# Altium schematic symbol library PowerMangment.SchLib: 147 symbols (part 2 of 2)
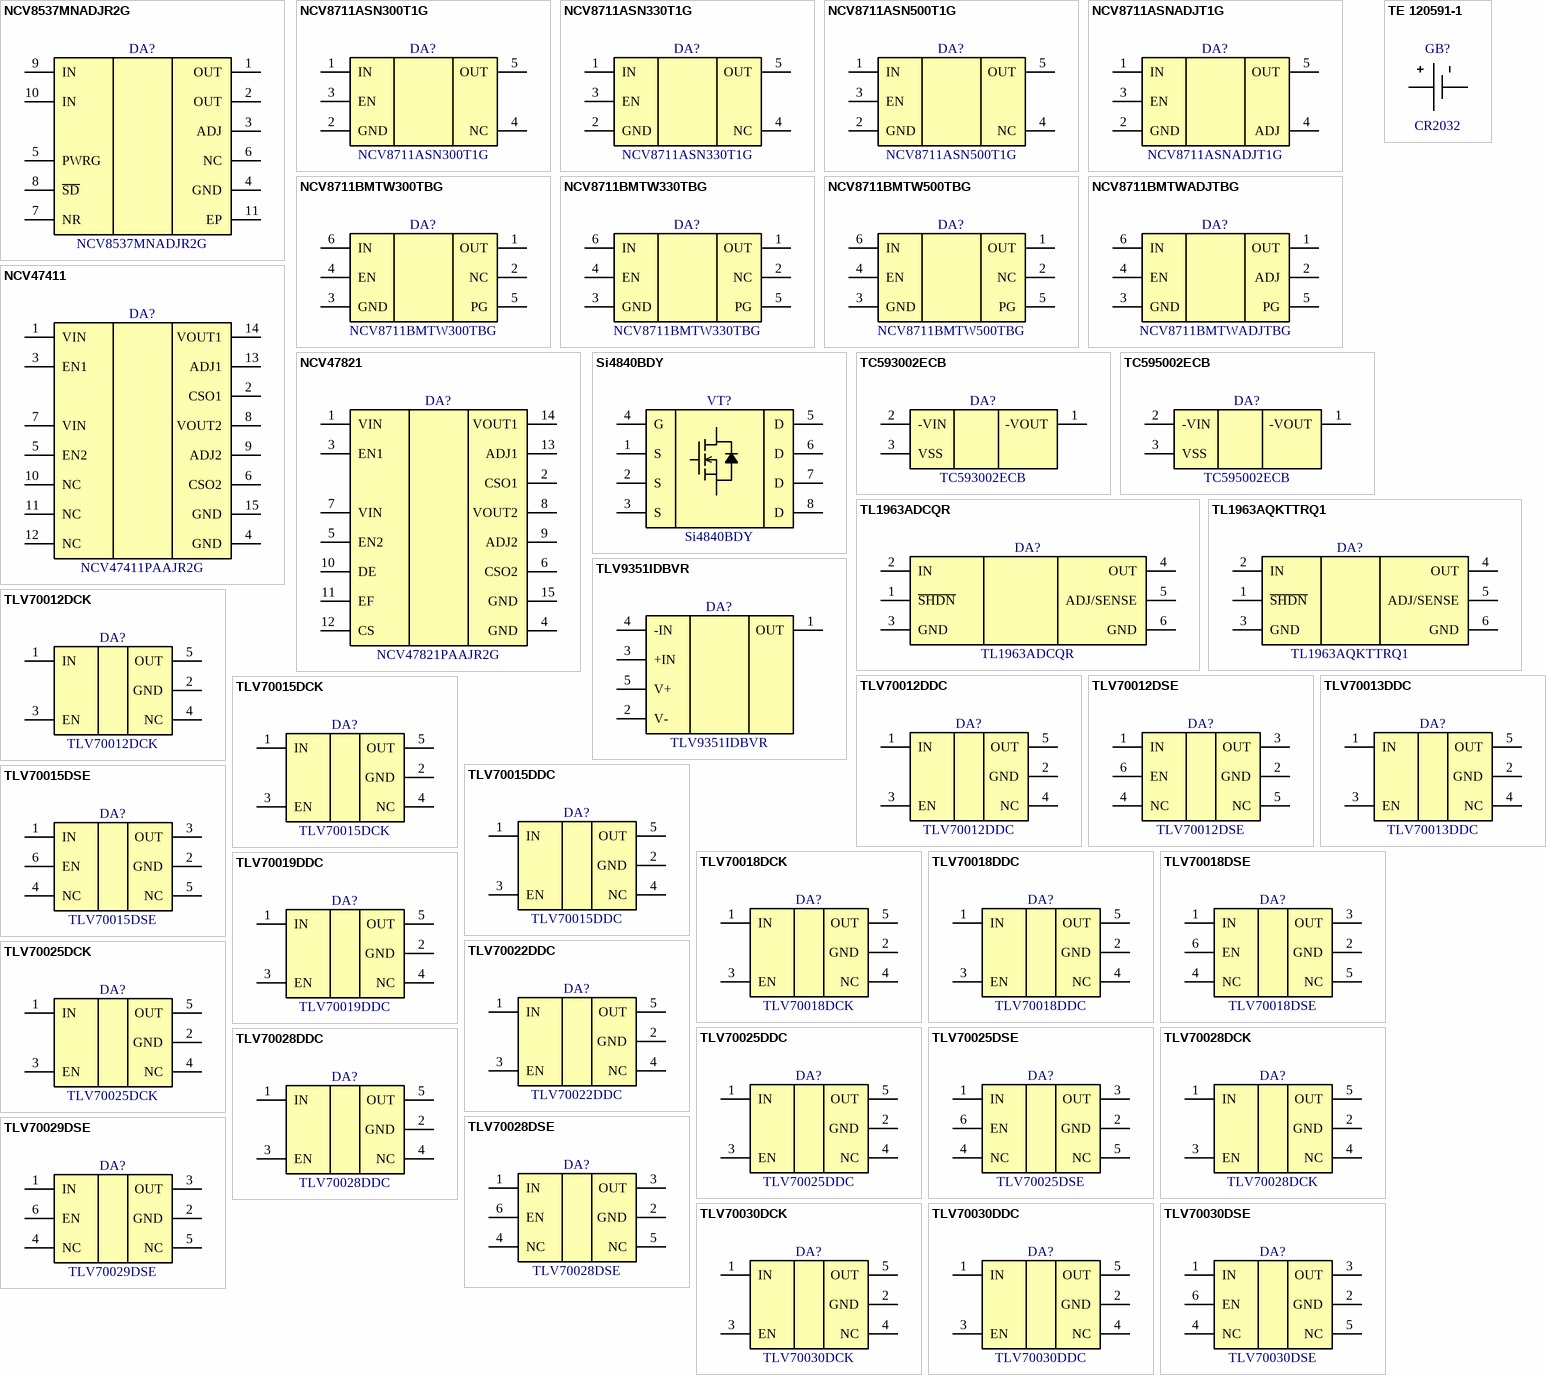
[diagram p5: symbols NCV8537MNADJR2G to TLV70030DSE]

## NCV8711ASN300T1G
designator DA?
LDO Regulator, 100 mA, 18 V, 1 uA, SOT-23-5, 3 V Fixed; Manufacturer: OnSemi; PartNumber: NCV8711ASN300T1G; ComponentLink1Description: Product Page; ComponentLink1URL: https://www.onsemi.com/products/power-management/linear-regulators-ldo/ncv8711; ComponentLink2Description: DataSheet; ComponentLink2URL: https://www.onsemi.com/download/data-sheet/pdf/ncv8711-d.pdf
footprint SOT23-5P95_275X110L40X37N (Small Outline Transistor (SOT23), 0.95 mm pitch; 5 pin, 3.00 mm L X 1.50 mm W X 1.10 mm H body)
pins: 1 IN, 2 GND, 3 EN, 4 NC, 5 OUT

## NCV8711ASN330T1G
designator DA?
LDO Regulator, 100 mA, 18 V, 1 uA, SOT-23-5, 3.3 V Fixed; Manufacturer: OnSemi; PartNumber: NCV8711ASN330T1G; ComponentLink1Description: Product Page; ComponentLink1URL: https://www.onsemi.com/products/power-management/linear-regulators-ldo/ncv8711; ComponentLink2Description: DataSheet; ComponentLink2URL: https://www.onsemi.com/download/data-sheet/pdf/ncv8711-d.pdf
footprint SOT23-5P95_275X110L40X37N (Small Outline Transistor (SOT23), 0.95 mm pitch; 5 pin, 3.00 mm L X 1.50 mm W X 1.10 mm H body)
pins: 1 IN, 2 GND, 3 EN, 4 NC, 5 OUT

## NCV8711ASN500T1G
designator DA?
LDO Regulator, 100 mA, 18 V, 1 uA, SOT-23-5, 5 V Fixed; Manufacturer: OnSemi; PartNumber: NCV8711ASN500T1G; ComponentLink1Description: Product Page; ComponentLink1URL: https://www.onsemi.com/products/power-management/linear-regulators-ldo/ncv8711; ComponentLink2Description: DataSheet; ComponentLink2URL: https://www.onsemi.com/download/data-sheet/pdf/ncv8711-d.pdf
footprint SOT23-5P95_275X110L40X37N (Small Outline Transistor (SOT23), 0.95 mm pitch; 5 pin, 3.00 mm L X 1.50 mm W X 1.10 mm H body)
pins: 1 IN, 2 GND, 3 EN, 4 NC, 5 OUT

## NCV8711ASNADJT1G
designator DA?
LDO Regulator, 100 mA, 18 V, 1 uA, SOT-23-5, Adj; Manufacturer: OnSemi; PartNumber: NCV8711ASNADJT1G; ComponentLink1Description: Product Page; ComponentLink1URL: https://www.onsemi.com/products/power-management/linear-regulators-ldo/ncv8711; ComponentLink2Description: DataSheet; ComponentLink2URL: https://www.onsemi.com/download/data-sheet/pdf/ncv8711-d.pdf
footprint SOT23-5P95_275X110L40X37N (Small Outline Transistor (SOT23), 0.95 mm pitch; 5 pin, 3.00 mm L X 1.50 mm W X 1.10 mm H body)
pins: 1 IN, 2 GND, 3 EN, 4 ADJ, 5 OUT

## NCV8711BMTW300TBG
designator DA?
LDO Regulator, 100 mA, 18 V, 1 uA, WDFNW6, 3.0 V Fixed; Manufacturer: OnSemi; PartNumber: NCV8711BMTW300TBG; ComponentLink1Description: Product Page; ComponentLink1URL: https://www.onsemi.com/products/power-management/linear-regulators-ldo/ncv8711; ComponentLink2Description: DataSheet; ComponentLink2URL: https://www.onsemi.com/download/data-sheet/pdf/ncv8711-d.pdf
footprint SON7P65_200X200X80L30X30T160X90N (Small Outline No-Lead (SON with Tab), 0.65 mm pitch; 6 pin, 2.00 mm L X 2.00 mm W X 0.80 mm H body)
pins: 1 OUT, 2 NC, 3 GND, 4 EN, 5 PG, 6 IN

## NCV8711BMTW330TBG
designator DA?
LDO Regulator, 100 mA, 18 V, 1 uA, WDFNW6, 3.3 V Fixed; Manufacturer: OnSemi; PartNumber: NCV8711BMTW330TBG; ComponentLink1Description: Product Page; ComponentLink1URL: https://www.onsemi.com/products/power-management/linear-regulators-ldo/ncv8711; ComponentLink2Description: DataSheet; ComponentLink2URL: https://www.onsemi.com/download/data-sheet/pdf/ncv8711-d.pdf
footprint SON7P65_200X200X80L30X30T160X90N (Small Outline No-Lead (SON with Tab), 0.65 mm pitch; 6 pin, 2.00 mm L X 2.00 mm W X 0.80 mm H body)
pins: 1 OUT, 2 NC, 3 GND, 4 EN, 5 PG, 6 IN

## NCV8711BMTW500TBG
designator DA?
LDO Regulator, 100 mA, 18 V, 1 uA, WDFNW6, 5.0 V Fixed; Manufacturer: OnSemi; PartNumber: NCV8711BMTW500TBG; ComponentLink1Description: Product Page; ComponentLink1URL: https://www.onsemi.com/products/power-management/linear-regulators-ldo/ncv8711; ComponentLink2Description: DataSheet; ComponentLink2URL: https://www.onsemi.com/download/data-sheet/pdf/ncv8711-d.pdf
footprint SON7P65_200X200X80L30X30T160X90N (Small Outline No-Lead (SON with Tab), 0.65 mm pitch; 6 pin, 2.00 mm L X 2.00 mm W X 0.80 mm H body)
pins: 1 OUT, 2 NC, 3 GND, 4 EN, 5 PG, 6 IN

## NCV8711BMTWADJTBG
designator DA?
LDO Regulator, 100 mA, 18 V, 1 uA, WDFNW6, Adj; Manufacturer: OnSemi; PartNumber: NCV8711BMTWADJTBG; ComponentLink1Description: Product Page; ComponentLink1URL: https://www.onsemi.com/products/power-management/linear-regulators-ldo/ncv8711; ComponentLink2Description: DataSheet; ComponentLink2URL: https://www.onsemi.com/download/data-sheet/pdf/ncv8711-d.pdf
footprint SON7P65_200X200X80L30X30T160X90N (Small Outline No-Lead (SON with Tab), 0.65 mm pitch; 6 pin, 2.00 mm L X 2.00 mm W X 0.80 mm H body)
pins: 1 OUT, 2 ADJ, 3 GND, 4 EN, 5 PG, 6 IN

## NCV47411
designator DA?, comment NCV47411PAAJR2G
LDO Regulator, 100 mA, Low Dropout, High PSRR, 3.3 V to 20 V; Manufacturer: OnSemi; PartNumber: NCV47411PAAJR2G; ComponentLink1Description: Product Page; ComponentLink1URL: https://www.onsemi.com/products/power-management/linear-regulators-ldo/ncv47411; ComponentLink2Description: DataSheet; ComponentLink2URL: https://www.onsemi.com/download/data-sheet/pdf/ncv47411-d.pdf
footprint SOP15P65_500X640X120L60X24T335X295N (Small Outline Pkg (SOP with Tab), 0.65 mm pitch; 14 pin, 5.00 mm L X 4.40 mm W X 1.20 mm H body)
pins: 1 VIN, 2 CSO1, 3 EN1, 4 GND, 5 EN2, 6 CSO2, 7 VIN, 8 VOUT2, 9 ADJ2, 10 NC, 11 NC, 12 NC, 13 ADJ1, 14 VOUT1, 15 GND

## NCV47821
designator DA?, comment NCV47821PAAJR2G
LDO Regulator, 200 mA, Low Dropout, High PSRR, 3.3 V to 20 V, Diagnostic Features; Manufacturer: OnSemi; PartNumber: NCV47821PAAJR2G; ComponentLink1Description: Product Page; ComponentLink1URL: https://www.onsemi.com/products/power-management/linear-regulators-ldo/ncv47821; ComponentLink2Description: DataSheet; ComponentLink2URL: https://www.onsemi.com/download/data-sheet/pdf/ncv47821-d.pdf
footprint SOP15P65_500X640X120L60X24T335X295N (Small Outline Pkg (SOP with Tab), 0.65 mm pitch; 14 pin, 5.00 mm L X 4.40 mm W X 1.20 mm H body)
pins: 1 VIN, 2 CSO1, 3 EN1, 4 GND, 5 EN2, 6 CSO2, 7 VIN, 8 VOUT2, 9 ADJ2, 10 DE, 11 EF, 12 CS, 13 ADJ1, 14 VOUT1, 15 GND

## Si4840BDY
designator VT?
N-Channel 40 V (D-S) MOSFET; Manufacturer: Vishay; PartNumber: Si4840BDY; ComponentLink1Description: Product Page; ComponentLink1URL: https://www.vishay.com/en/product/69795/; ComponentLink2Description: DataSheet; ComponentLink2URL: https://www.vishay.com/docs/69795/si4840bdy.pdf
footprint SOIC8P127_490X600X175L71X43N (Small Outline IC (SOIC), 1.27 mm pitch; 8 pin, 4.90 mm L X 3.90 mm W X 1.75 mm H body)
pins: 1 S, 2 S, 3 S, 4 G, 5 D, 6 D, 7 D, 8 D

## TC593002ECB
designator DA?
Low Dropout, Negative Output Voltage Regulator, -3V fixed; Manufacturer: Microchip; PartNumber: TC593002ECB; ComponentLink1Description: Product Page; ComponentLink1URL: https://www.microchip.com/en-us/product/TC59; ComponentLink2Description: DataSheet; ComponentLink2URL: https://ww1.microchip.com/downloads/aemDocuments/documents/APID/ProductDocuments/DataSheets/21438C.pdf
footprint SOT23-3P95_275X130L45X40N (Small Outline Transistor (SOT23), 0.95 mm pitch; 3 pin, 2.90 mm L X 1.60 mm W X 1.30 mm H body)
pins: 1 -VOUT, 2 -VIN, 3 VSS

## TC595002ECB
designator DA?
Low Dropout, Negative Output Voltage Regulator, -5V fixed; Manufacturer: Microchip; PartNumber: TC595002ECB; ComponentLink1Description: Product Page; ComponentLink1URL: https://www.microchip.com/en-us/product/TC59; ComponentLink2Description: DataSheet; ComponentLink2URL: https://ww1.microchip.com/downloads/aemDocuments/documents/APID/ProductDocuments/DataSheets/21438C.pdf
footprint SOT23-3P95_275X130L45X40N (Small Outline Transistor (SOT23), 0.95 mm pitch; 3 pin, 2.90 mm L X 1.60 mm W X 1.30 mm H body)
pins: 1 -VOUT, 2 -VIN, 3 VSS

## TE 120591-1
designator GB?, comment CR2032
Battery Holder, CR2032, Horizontal, Tin, PCB Mount Alignment; PartNumber: 120591-1; Manufacturer: TE Connectivity; BatteryType: CR2032; ComponentLink1Description: Product Page; ComponentLink1URL: https://www.te.com/usa-en/product-120591-1.html; ComponentLink2Description: DataSheet; ComponentLink2URL: https://www.te.com/usa-en/product-120591-1.datasheet.pdf
footprint TE 120591-1 (Lithium Battery Holder, CR2032, 2 Position, Horizontal, Tin, PCB Mount Alignment)
pins: 1, 2

## TL1963ADCQR
designator DA?
1.5-A, 20-V, low-dropout voltage regulator with reverse current & reverse voltage protection, Adj., SOT-223; Manufacturer: Texas Instruments; PartNumber: TL1963ADCQR; ComponentLink1Description: Product Page; ComponentLink1URL: https://www.ti.com/product/TL1963A; ComponentLink2Description: DataSheet; ComponentLink2URL: https://www.ti.com/lit/gpn/tl1963a
footprint SOT223-6P127_706X180L102X46N (Small Outline Transistor (SOT223), 1.27 mm pitch; 6 pin, 6.50 mm L X 3.50 mm W X 1.80 mm H body)
pins: 1 ~{SHDN}, 2 IN, 3 GND, 4 OUT, 5 ADJ/SENSE, 6 GND

## TL1963AQKTTRQ1
designator DA?
1.5-A Low-Noise Fast-Transient-Response Low-Dropout Regulator; Manufacturer: Texas Instruments; PartNumber: TL1963AQKTTRQ1; ComponentLink1Description: Product Page; ComponentLink1URL: https://www.ti.com/product/TL1963A-Q1; ComponentLink2Description: DataSheet; ComponentLink2URL: https://www.ti.com/lit/gpn/tl1963a-q1
footprint DPAK170P1525X485-6N (D2-PAK, 6-Pads, Body 7,93x8,71mm (max), IPC Medium Density)
pins: 1 ~{SHDN}, 2 IN, 3 GND, 4 OUT, 5 ADJ/SENSE, 6 GND

## TLV9351IDBVR
designator DA?
3.5-MHz, 40-V, RRO, MUX-Friendly Operational Amplifier / for Cost-Sensitive Systems, SOT-23; Manufacturer: Texas Instruments; PartNumber: TLV9351IDBVR; ComponentLink1Description: Product Page; ComponentLink1URL: https://www.ti.com/product/TLV9351; ComponentLink2Description: DataSheet; ComponentLink2URL: https://www.ti.com/lit/gpn/tlv9351
footprint SOT23-5P95_280X145L45X40N (Small Outline Transistor (SOT23), 0.95 mm pitch; 5 pin, 2.90 mm L X 1.60 mm W X 1.45 mm H body)
pins: 1 OUT, 2 V-, 3 +IN, 4 -IN, 5 V+

## TLV70012DCK
designator DA?
200-mA,Low-IQ, Low-Dropout Regulator for Portable Devices, Fixed 1.2 V, SC70; Manufacturer: Texas Instruments; PartNumber: TLV70012DCK; ComponentLink1Description: Product Page; ComponentLink1URL: https://www.ti.com/product/TLV700; ComponentLink2Description: DataSheet; ComponentLink2URL: https://www.ti.com/lit/gpn/tlv700
footprint SOT23-5P65_210X110L36X22N (Small Outline Transistor (SOT23), 0.65 mm pitch; 5 pin, 2.00 mm L X 1.25 mm W X 1.10 mm H body)
pins: 1 IN, 2 GND, 3 EN, 4 NC, 5 OUT

## TLV70012DDC
designator DA?
200-mA,Low-IQ, Low-Dropout Regulator for Portable Devices, Fixed 1.2 V, SOT-23-THIN; Manufacturer: Texas Instruments; PartNumber: TLV70012DDC; ComponentLink1Description: Product Page; ComponentLink1URL: https://www.ti.com/product/TLV700; ComponentLink2Description: DataSheet; ComponentLink2URL: https://www.ti.com/lit/gpn/tlv700
footprint SOT23-5P95_280X110L45X40N (Small Outline Transistor (SOT23), 0.95 mm pitch; 5 pin, 2.90 mm L X 1.60 mm W X 1.10 mm H body)
pins: 1 IN, 2 GND, 3 EN, 4 NC, 5 OUT

## TLV70012DSE
designator DA?
200-mA,Low-IQ, Low-Dropout Regulator for Portable Devices, Fixed 1.2 V, WSON-6; Manufacturer: Texas Instruments; PartNumber: TLV70012DSE; ComponentLink1Description: Product Page; ComponentLink1URL: https://www.ti.com/product/TLV700; ComponentLink2Description: DataSheet; ComponentLink2URL: https://www.ti.com/lit/gpn/tlv700
footprint SON6P50_150X150X80L50X25N (Small Outline No-Lead (SON), 0.50 mm pitch; 6 pin, 1.50 mm L X 1.50 mm W X 0.80 mm H body)
pins: 1 IN, 2 GND, 3 OUT, 4 NC, 5 NC, 6 EN

## TLV70013DDC
designator DA?
200-mA,Low-IQ, Low-Dropout Regulator for Portable Devices, Fixed 1.3 V, SOT-23-THIN; Manufacturer: Texas Instruments; PartNumber: TLV70013DDC; ComponentLink1Description: Product Page; ComponentLink1URL: https://www.ti.com/product/TLV700; ComponentLink2Description: DataSheet; ComponentLink2URL: https://www.ti.com/lit/gpn/tlv700
footprint SOT23-5P95_280X110L45X40N (Small Outline Transistor (SOT23), 0.95 mm pitch; 5 pin, 2.90 mm L X 1.60 mm W X 1.10 mm H body)
pins: 1 IN, 2 GND, 3 EN, 4 NC, 5 OUT

## TLV70015DCK
designator DA?
200-mA,Low-IQ, Low-Dropout Regulator for Portable Devices, Fixed 1.5 V, SC70; Manufacturer: Texas Instruments; PartNumber: TLV70015DCK; ComponentLink1Description: Product Page; ComponentLink1URL: https://www.ti.com/product/TLV700; ComponentLink2Description: DataSheet; ComponentLink2URL: https://www.ti.com/lit/gpn/tlv700
footprint SOT23-5P65_210X110L36X22N (Small Outline Transistor (SOT23), 0.65 mm pitch; 5 pin, 2.00 mm L X 1.25 mm W X 1.10 mm H body)
pins: 1 IN, 2 GND, 3 EN, 4 NC, 5 OUT

## TLV70015DDC
designator DA?
200-mA,Low-IQ, Low-Dropout Regulator for Portable Devices, Fixed 1.5 V, SOT-23-THIN; Manufacturer: Texas Instruments; PartNumber: TLV70015DDC; ComponentLink1Description: Product Page; ComponentLink1URL: https://www.ti.com/product/TLV700; ComponentLink2Description: DataSheet; ComponentLink2URL: https://www.ti.com/lit/gpn/tlv700
footprint SOT23-5P95_280X110L45X40N (Small Outline Transistor (SOT23), 0.95 mm pitch; 5 pin, 2.90 mm L X 1.60 mm W X 1.10 mm H body)
pins: 1 IN, 2 GND, 3 EN, 4 NC, 5 OUT

## TLV70015DSE
designator DA?
200-mA,Low-IQ, Low-Dropout Regulator for Portable Devices, Fixed 1.5 V, WSON-6; Manufacturer: Texas Instruments; PartNumber: TLV70015DSE; ComponentLink1Description: Product Page; ComponentLink1URL: https://www.ti.com/product/TLV700; ComponentLink2Description: DataSheet; ComponentLink2URL: https://www.ti.com/lit/gpn/tlv700
footprint SON6P50_150X150X80L50X25N (Small Outline No-Lead (SON), 0.50 mm pitch; 6 pin, 1.50 mm L X 1.50 mm W X 0.80 mm H body)
pins: 1 IN, 2 GND, 3 OUT, 4 NC, 5 NC, 6 EN

## TLV70018DCK
designator DA?
200-mA,Low-IQ, Low-Dropout Regulator for Portable Devices, Fixed 1.8 V, SC70; Manufacturer: Texas Instruments; PartNumber: TLV70018DCK; ComponentLink1Description: Product Page; ComponentLink1URL: https://www.ti.com/product/TLV700; ComponentLink2Description: DataSheet; ComponentLink2URL: https://www.ti.com/lit/gpn/tlv700
footprint SOT23-5P65_210X110L36X22N (Small Outline Transistor (SOT23), 0.65 mm pitch; 5 pin, 2.00 mm L X 1.25 mm W X 1.10 mm H body)
pins: 1 IN, 2 GND, 3 EN, 4 NC, 5 OUT

## TLV70018DDC
designator DA?
200-mA,Low-IQ, Low-Dropout Regulator for Portable Devices, Fixed 1.8 V, SOT-23-THIN; Manufacturer: Texas Instruments; PartNumber: TLV70018DDC; ComponentLink1Description: Product Page; ComponentLink1URL: https://www.ti.com/product/TLV700; ComponentLink2Description: DataSheet; ComponentLink2URL: https://www.ti.com/lit/gpn/tlv700
footprint SOT23-5P95_280X110L45X40N (Small Outline Transistor (SOT23), 0.95 mm pitch; 5 pin, 2.90 mm L X 1.60 mm W X 1.10 mm H body)
pins: 1 IN, 2 GND, 3 EN, 4 NC, 5 OUT

## TLV70018DSE
designator DA?
200-mA,Low-IQ, Low-Dropout Regulator for Portable Devices, Fixed 1.5 V, WSON-6; Manufacturer: Texas Instruments; PartNumber: TLV70018DSE; ComponentLink1Description: Product Page; ComponentLink1URL: https://www.ti.com/product/TLV700; ComponentLink2Description: DataSheet; ComponentLink2URL: https://www.ti.com/lit/gpn/tlv700
footprint SON6P50_150X150X80L50X25N (Small Outline No-Lead (SON), 0.50 mm pitch; 6 pin, 1.50 mm L X 1.50 mm W X 0.80 mm H body)
pins: 1 IN, 2 GND, 3 OUT, 4 NC, 5 NC, 6 EN

## TLV70019DDC
designator DA?
200-mA,Low-IQ, Low-Dropout Regulator for Portable Devices, Fixed 1.9 V, SOT-23-THIN; Manufacturer: Texas Instruments; PartNumber: TLV70019DDC; ComponentLink1Description: Product Page; ComponentLink1URL: https://www.ti.com/product/TLV700; ComponentLink2Description: DataSheet; ComponentLink2URL: https://www.ti.com/lit/gpn/tlv700
footprint SOT23-5P95_280X110L45X40N (Small Outline Transistor (SOT23), 0.95 mm pitch; 5 pin, 2.90 mm L X 1.60 mm W X 1.10 mm H body)
pins: 1 IN, 2 GND, 3 EN, 4 NC, 5 OUT

## TLV70022DDC
designator DA?
200-mA,Low-IQ, Low-Dropout Regulator for Portable Devices, Fixed 2.2 V, SOT-23-THIN; Manufacturer: Texas Instruments; PartNumber: TLV70022DDC; ComponentLink1Description: Product Page; ComponentLink1URL: https://www.ti.com/product/TLV700; ComponentLink2Description: DataSheet; ComponentLink2URL: https://www.ti.com/lit/gpn/tlv700
footprint SOT23-5P95_280X110L45X40N (Small Outline Transistor (SOT23), 0.95 mm pitch; 5 pin, 2.90 mm L X 1.60 mm W X 1.10 mm H body)
pins: 1 IN, 2 GND, 3 EN, 4 NC, 5 OUT

## TLV70025DCK
designator DA?
200-mA,Low-IQ, Low-Dropout Regulator for Portable Devices, Fixed 2.5 V, SC70; Manufacturer: Texas Instruments; PartNumber: TLV70025DCK; ComponentLink1Description: Product Page; ComponentLink1URL: https://www.ti.com/product/TLV700; ComponentLink2Description: DataSheet; ComponentLink2URL: https://www.ti.com/lit/gpn/tlv700
footprint SOT23-5P65_210X110L36X22N (Small Outline Transistor (SOT23), 0.65 mm pitch; 5 pin, 2.00 mm L X 1.25 mm W X 1.10 mm H body)
pins: 1 IN, 2 GND, 3 EN, 4 NC, 5 OUT

## TLV70025DDC
designator DA?
200-mA,Low-IQ, Low-Dropout Regulator for Portable Devices, Fixed 2.5 V, SOT-23-THIN; Manufacturer: Texas Instruments; PartNumber: TLV70025DDC; ComponentLink1Description: Product Page; ComponentLink1URL: https://www.ti.com/product/TLV700; ComponentLink2Description: DataSheet; ComponentLink2URL: https://www.ti.com/lit/gpn/tlv700
footprint SOT23-5P95_280X110L45X40N (Small Outline Transistor (SOT23), 0.95 mm pitch; 5 pin, 2.90 mm L X 1.60 mm W X 1.10 mm H body)
pins: 1 IN, 2 GND, 3 EN, 4 NC, 5 OUT

## TLV70025DSE
designator DA?
200-mA,Low-IQ, Low-Dropout Regulator for Portable Devices, Fixed 2.5 V, WSON-6; Manufacturer: Texas Instruments; PartNumber: TLV70025DSE; ComponentLink1Description: Product Page; ComponentLink1URL: https://www.ti.com/product/TLV700; ComponentLink2Description: DataSheet; ComponentLink2URL: https://www.ti.com/lit/gpn/tlv700
footprint SON6P50_150X150X80L50X25N (Small Outline No-Lead (SON), 0.50 mm pitch; 6 pin, 1.50 mm L X 1.50 mm W X 0.80 mm H body)
pins: 1 IN, 2 GND, 3 OUT, 4 NC, 5 NC, 6 EN

## TLV70028DCK
designator DA?
200-mA,Low-IQ, Low-Dropout Regulator for Portable Devices, Fixed 2.8 V, SC70; Manufacturer: Texas Instruments; PartNumber: TLV70028DCK; ComponentLink1Description: Product Page; ComponentLink1URL: https://www.ti.com/product/TLV700; ComponentLink2Description: DataSheet; ComponentLink2URL: https://www.ti.com/lit/gpn/tlv700
footprint SOT23-5P65_210X110L36X22N (Small Outline Transistor (SOT23), 0.65 mm pitch; 5 pin, 2.00 mm L X 1.25 mm W X 1.10 mm H body)
pins: 1 IN, 2 GND, 3 EN, 4 NC, 5 OUT

## TLV70028DDC
designator DA?
200-mA,Low-IQ, Low-Dropout Regulator for Portable Devices, Fixed 2.8 V, SOT-23-THIN; Manufacturer: Texas Instruments; PartNumber: TLV70028DDC; ComponentLink1Description: Product Page; ComponentLink1URL: https://www.ti.com/product/TLV700; ComponentLink2Description: DataSheet; ComponentLink2URL: https://www.ti.com/lit/gpn/tlv700
footprint SOT23-5P95_280X110L45X40N (Small Outline Transistor (SOT23), 0.95 mm pitch; 5 pin, 2.90 mm L X 1.60 mm W X 1.10 mm H body)
pins: 1 IN, 2 GND, 3 EN, 4 NC, 5 OUT

## TLV70028DSE
designator DA?
200-mA,Low-IQ, Low-Dropout Regulator for Portable Devices, Fixed 2.8 V, WSON-6; Manufacturer: Texas Instruments; PartNumber: TLV70028DSE; ComponentLink1Description: Product Page; ComponentLink1URL: https://www.ti.com/product/TLV700; ComponentLink2Description: DataSheet; ComponentLink2URL: https://www.ti.com/lit/gpn/tlv700
footprint SON6P50_150X150X80L50X25N (Small Outline No-Lead (SON), 0.50 mm pitch; 6 pin, 1.50 mm L X 1.50 mm W X 0.80 mm H body)
pins: 1 IN, 2 GND, 3 OUT, 4 NC, 5 NC, 6 EN

## TLV70029DSE
designator DA?
200-mA,Low-IQ, Low-Dropout Regulator for Portable Devices, Fixed 2.9 V, WSON-6; Manufacturer: Texas Instruments; PartNumber: TLV70029DSE; ComponentLink1Description: Product Page; ComponentLink1URL: https://www.ti.com/product/TLV700; ComponentLink2Description: DataSheet; ComponentLink2URL: https://www.ti.com/lit/gpn/tlv700
footprint SON6P50_150X150X80L50X25N (Small Outline No-Lead (SON), 0.50 mm pitch; 6 pin, 1.50 mm L X 1.50 mm W X 0.80 mm H body)
pins: 1 IN, 2 GND, 3 OUT, 4 NC, 5 NC, 6 EN

## TLV70030DCK
designator DA?
200-mA,Low-IQ, Low-Dropout Regulator for Portable Devices, Fixed 3.0 V, SC70; Manufacturer: Texas Instruments; PartNumber: TLV70030DCK; ComponentLink1Description: Product Page; ComponentLink1URL: https://www.ti.com/product/TLV700; ComponentLink2Description: DataSheet; ComponentLink2URL: https://www.ti.com/lit/gpn/tlv700
footprint SOT23-5P65_210X110L36X22N (Small Outline Transistor (SOT23), 0.65 mm pitch; 5 pin, 2.00 mm L X 1.25 mm W X 1.10 mm H body)
pins: 1 IN, 2 GND, 3 EN, 4 NC, 5 OUT

## TLV70030DDC
designator DA?
200-mA,Low-IQ, Low-Dropout Regulator for Portable Devices, Fixed 3.0 V, SOT-23-THIN; Manufacturer: Texas Instruments; PartNumber: TLV70030DDC; ComponentLink1Description: Product Page; ComponentLink1URL: https://www.ti.com/product/TLV700; ComponentLink2Description: DataSheet; ComponentLink2URL: https://www.ti.com/lit/gpn/tlv700
footprint SOT23-5P95_280X110L45X40N (Small Outline Transistor (SOT23), 0.95 mm pitch; 5 pin, 2.90 mm L X 1.60 mm W X 1.10 mm H body)
pins: 1 IN, 2 GND, 3 EN, 4 NC, 5 OUT

## TLV70030DSE
designator DA?
200-mA,Low-IQ, Low-Dropout Regulator for Portable Devices, Fixed 3.0 V, WSON-6; Manufacturer: Texas Instruments; PartNumber: TLV70030DSE; ComponentLink1Description: Product Page; ComponentLink1URL: https://www.ti.com/product/TLV700; ComponentLink2Description: DataSheet; ComponentLink2URL: https://www.ti.com/lit/gpn/tlv700
footprint SON6P50_150X150X80L50X25N (Small Outline No-Lead (SON), 0.50 mm pitch; 6 pin, 1.50 mm L X 1.50 mm W X 0.80 mm H body)
pins: 1 IN, 2 GND, 3 OUT, 4 NC, 5 NC, 6 EN

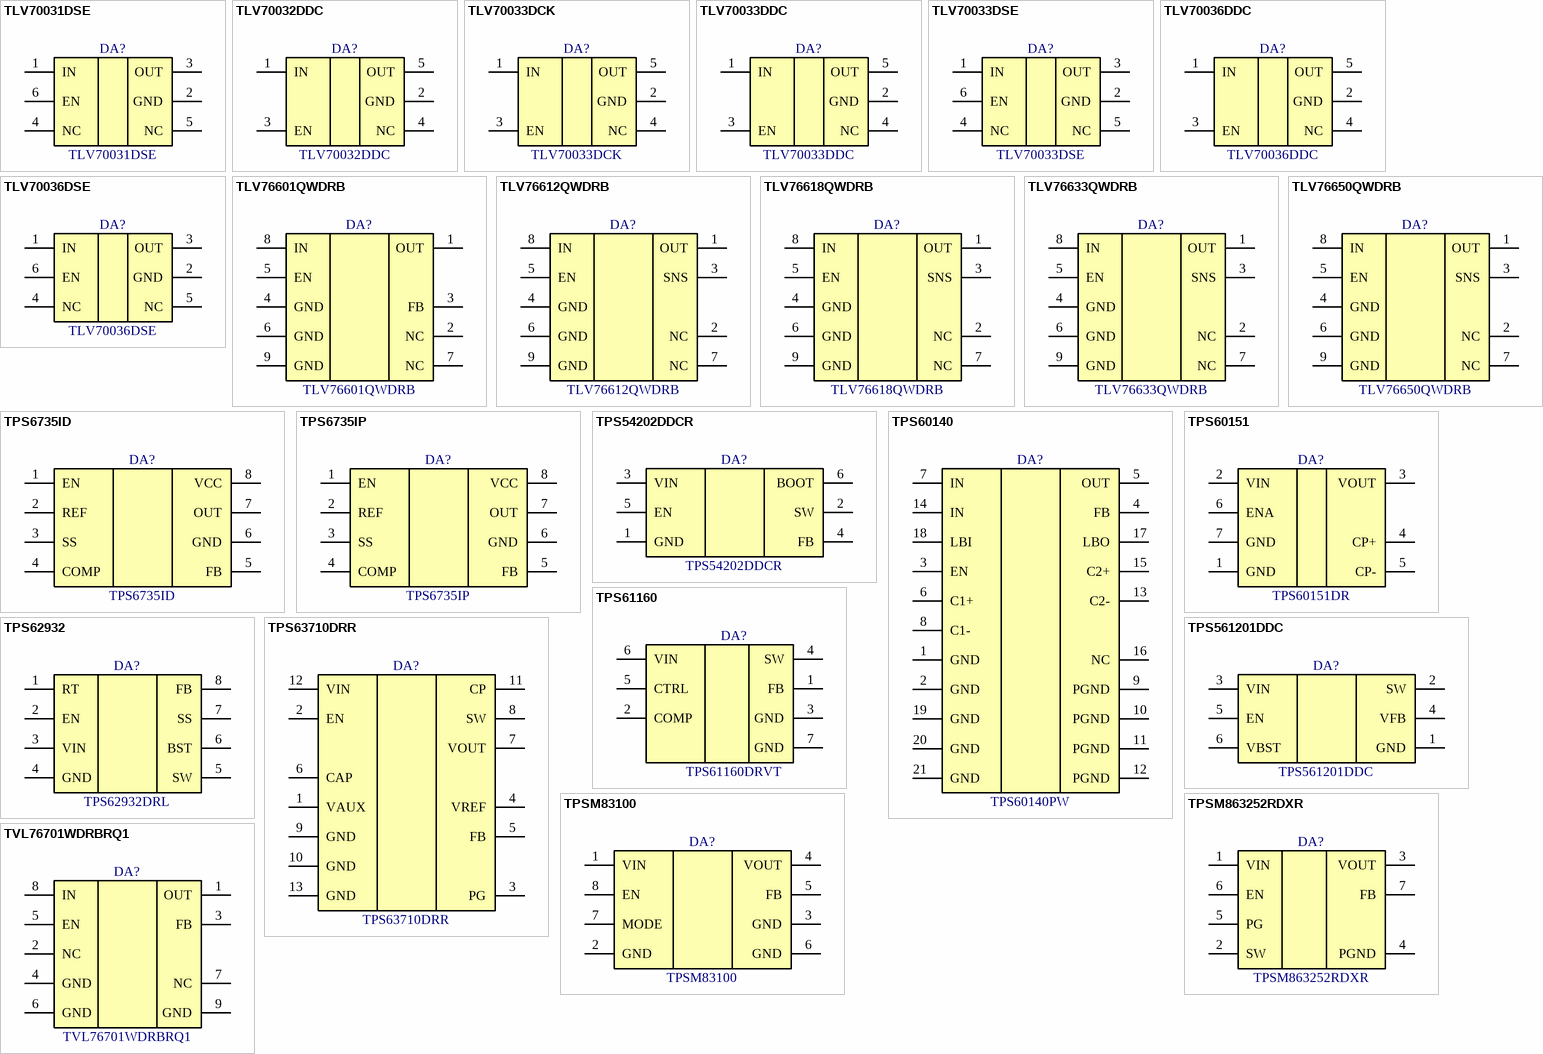
[diagram p4: symbols TLV70031DSE to TVL76701WDRBRQ1]

## TLV70031DSE
designator DA?
200-mA,Low-IQ, Low-Dropout Regulator for Portable Devices, Fixed 3.1 V, WSON-6; Manufacturer: Texas Instruments; PartNumber: TLV70031DSE; ComponentLink1Description: Product Page; ComponentLink1URL: https://www.ti.com/product/TLV700; ComponentLink2Description: DataSheet; ComponentLink2URL: https://www.ti.com/lit/gpn/tlv700
footprint SON6P50_150X150X80L50X25N (Small Outline No-Lead (SON), 0.50 mm pitch; 6 pin, 1.50 mm L X 1.50 mm W X 0.80 mm H body)
pins: 1 IN, 2 GND, 3 OUT, 4 NC, 5 NC, 6 EN

## TLV70032DDC
designator DA?
200-mA,Low-IQ, Low-Dropout Regulator for Portable Devices, Fixed 3.2 V, SOT-23-THIN; Manufacturer: Texas Instruments; PartNumber: TLV70032DDC; ComponentLink1Description: Product Page; ComponentLink1URL: https://www.ti.com/product/TLV700; ComponentLink2Description: DataSheet; ComponentLink2URL: https://www.ti.com/lit/gpn/tlv700
footprint SOT23-5P95_280X110L45X40N (Small Outline Transistor (SOT23), 0.95 mm pitch; 5 pin, 2.90 mm L X 1.60 mm W X 1.10 mm H body)
pins: 1 IN, 2 GND, 3 EN, 4 NC, 5 OUT

## TLV70033DCK
designator DA?
200-mA,Low-IQ, Low-Dropout Regulator for Portable Devices, Fixed 3.3 V, SC70; Manufacturer: Texas Instruments; PartNumber: TLV70033DCK; ComponentLink1Description: Product Page; ComponentLink1URL: https://www.ti.com/product/TLV700; ComponentLink2Description: DataSheet; ComponentLink2URL: https://www.ti.com/lit/gpn/tlv700
footprint SOT23-5P65_210X110L36X22N (Small Outline Transistor (SOT23), 0.65 mm pitch; 5 pin, 2.00 mm L X 1.25 mm W X 1.10 mm H body)
pins: 1 IN, 2 GND, 3 EN, 4 NC, 5 OUT

## TLV70033DDC
designator DA?
200-mA,Low-IQ, Low-Dropout Regulator for Portable Devices, Fixed 3.3 V, SOT-23-THIN; Manufacturer: Texas Instruments; PartNumber: TLV70033DDC; ComponentLink1Description: Product Page; ComponentLink1URL: https://www.ti.com/product/TLV700; ComponentLink2Description: DataSheet; ComponentLink2URL: https://www.ti.com/lit/gpn/tlv700
footprint SOT23-5P95_280X110L45X40N (Small Outline Transistor (SOT23), 0.95 mm pitch; 5 pin, 2.90 mm L X 1.60 mm W X 1.10 mm H body)
pins: 1 IN, 2 GND, 3 EN, 4 NC, 5 OUT

## TLV70033DSE
designator DA?
200-mA,Low-IQ, Low-Dropout Regulator for Portable Devices, Fixed 3.3 V, WSON-6; Manufacturer: Texas Instruments; PartNumber: TLV70033DSE; ComponentLink1Description: Product Page; ComponentLink1URL: https://www.ti.com/product/TLV700; ComponentLink2Description: DataSheet; ComponentLink2URL: https://www.ti.com/lit/gpn/tlv700
footprint SON6P50_150X150X80L50X25N (Small Outline No-Lead (SON), 0.50 mm pitch; 6 pin, 1.50 mm L X 1.50 mm W X 0.80 mm H body)
pins: 1 IN, 2 GND, 3 OUT, 4 NC, 5 NC, 6 EN

## TLV70036DDC
designator DA?
200-mA,Low-IQ, Low-Dropout Regulator for Portable Devices, Fixed 3.6 V, SOT-23-THIN; Manufacturer: Texas Instruments; PartNumber: TLV70036DDC; ComponentLink1Description: Product Page; ComponentLink1URL: https://www.ti.com/product/TLV700; ComponentLink2Description: DataSheet; ComponentLink2URL: https://www.ti.com/lit/gpn/tlv700
footprint SOT23-5P95_280X110L45X40N (Small Outline Transistor (SOT23), 0.95 mm pitch; 5 pin, 2.90 mm L X 1.60 mm W X 1.10 mm H body)
pins: 1 IN, 2 GND, 3 EN, 4 NC, 5 OUT

## TLV70036DSE
designator DA?
200-mA,Low-IQ, Low-Dropout Regulator for Portable Devices, Fixed 3.6 V, WSON-6; Manufacturer: Texas Instruments; PartNumber: TLV70036DSE; ComponentLink1Description: Product Page; ComponentLink1URL: https://www.ti.com/product/TLV700; ComponentLink2Description: DataSheet; ComponentLink2URL: https://www.ti.com/lit/gpn/tlv700
footprint SON6P50_150X150X80L50X25N (Small Outline No-Lead (SON), 0.50 mm pitch; 6 pin, 1.50 mm L X 1.50 mm W X 0.80 mm H body)
pins: 1 IN, 2 GND, 3 OUT, 4 NC, 5 NC, 6 EN

## TLV76601QWDRB
designator DA?
500-mA, 16-V Linear Voltage Regulator Adjustable  Version, LDO; Manufacturer: Texas Instruments; PartNumber: TLV76601QWDRB; ComponentLink1Description: Product Page; ComponentLink1URL: https://www.ti.com/product/TLV766-Q1; ComponentLink2Description: DataSheet; ComponentLink2URL: https://www.ti.com/lit/gpn/tlv766-q1
footprint SON9P65_300X300X100L40X31T240X165N (Small Outline No-Lead (SON with Tab), 0.65 mm pitch; 8 pin, 3.00 mm L X 3.00 mm W X 1.00 mm H body)
pins: 1 OUT, 2 NC, 3 FB, 4 GND, 5 EN, 6 GND, 7 NC, 8 IN, 9 GND

## TLV76612QWDRB
designator DA?
500-mA, 16-V Linear Voltage Regulator, Fixed  Version 1.2 V, LDO; Manufacturer: Texas Instruments; PartNumber: TLV76612QWDRB; ComponentLink1Description: Product Page; ComponentLink1URL: https://www.ti.com/product/TLV766-Q1; ComponentLink2Description: DataSheet; ComponentLink2URL: https://www.ti.com/lit/gpn/tlv766-q1
footprint SON9P65_300X300X100L40X31T240X165N (Small Outline No-Lead (SON with Tab), 0.65 mm pitch; 8 pin, 3.00 mm L X 3.00 mm W X 1.00 mm H body)
pins: 1 OUT, 2 NC, 3 SNS, 4 GND, 5 EN, 6 GND, 7 NC, 8 IN, 9 GND

## TLV76618QWDRB
designator DA?
500-mA, 16-V Linear Voltage Regulator, Fixed  Version 1.8 V, LDO; Manufacturer: Texas Instruments; PartNumber: TLV76618QWDRB; ComponentLink1Description: Product Page; ComponentLink1URL: https://www.ti.com/product/TLV766-Q1; ComponentLink2Description: DataSheet; ComponentLink2URL: https://www.ti.com/lit/gpn/tlv766-q1
footprint SON9P65_300X300X100L40X31T240X165N (Small Outline No-Lead (SON with Tab), 0.65 mm pitch; 8 pin, 3.00 mm L X 3.00 mm W X 1.00 mm H body)
pins: 1 OUT, 2 NC, 3 SNS, 4 GND, 5 EN, 6 GND, 7 NC, 8 IN, 9 GND

## TLV76633QWDRB
designator DA?
500-mA, 16-V Linear Voltage Regulator, Fixed  Version 3.3 V, LDO; Manufacturer: Texas Instruments; PartNumber: TLV76633QWDRB; ComponentLink1Description: Product Page; ComponentLink1URL: https://www.ti.com/product/TLV766-Q1; ComponentLink2Description: DataSheet; ComponentLink2URL: https://www.ti.com/lit/gpn/tlv766-q1
footprint SON9P65_300X300X100L40X31T240X165N (Small Outline No-Lead (SON with Tab), 0.65 mm pitch; 8 pin, 3.00 mm L X 3.00 mm W X 1.00 mm H body)
pins: 1 OUT, 2 NC, 3 SNS, 4 GND, 5 EN, 6 GND, 7 NC, 8 IN, 9 GND

## TLV76650QWDRB
designator DA?
500-mA, 16-V Linear Voltage Regulator, Fixed  Version 5.0 V, LDO; Manufacturer: Texas Instruments; PartNumber: TLV76650QWDRB; ComponentLink1Description: Product Page; ComponentLink1URL: https://www.ti.com/product/TLV766-Q1; ComponentLink2Description: DataSheet; ComponentLink2URL: https://www.ti.com/lit/gpn/tlv766-q1
footprint SON9P65_300X300X100L40X31T240X165N (Small Outline No-Lead (SON with Tab), 0.65 mm pitch; 8 pin, 3.00 mm L X 3.00 mm W X 1.00 mm H body)
pins: 1 OUT, 2 NC, 3 SNS, 4 GND, 5 EN, 6 GND, 7 NC, 8 IN, 9 GND

## TPS6735ID
designator DA?
Fixed Negative 5-V 200-MA Inverting DC/DC Converter; Manufacturer: Texas Instruments; PartNumber: TPS6735ID; ComponentLink1Description: Product Page; ComponentLink1URL: https://www.ti.com/product/TPS6735; ComponentLink2Description: DataSheet; ComponentLink2URL: https://www.ti.com/lit/gpn/tps6735
footprint SOIC8P127_490X600X175L76X43N (Small Outline IC (SOIC), 1.27 mm pitch; 8 pin, 4.90 mm L X 3.90 mm W X 1.75 mm H body)
pins: 1 EN, 2 REF, 3 SS, 4 COMP, 5 FB, 6 GND, 7 OUT, 8 VCC

## TPS6735IP
designator DA?
Fixed Negative 5-V 200-MA Inverting DC/DC Converter; Manufacturer: Texas Instruments; PartNumber: TPS6735IP; ComponentLink1Description: Product Page; ComponentLink1URL: https://www.ti.com/product/TPS6735; ComponentLink2Description: DataSheet; ComponentLink2URL: https://www.ti.com/lit/gpn/tps6735
footprint R-PDIP-T8_TI
pins: 1 EN, 2 REF, 3 SS, 4 COMP, 5 FB, 6 GND, 7 OUT, 8 VCC

## TPS54202DDCR
designator DA?
4.5-V to 28-V Input, 2-A Output, EMI Friendly / Synchronous Step Down Converter; Manufacturer: Texas Instruments; PartNumber: TPS54202DDCR; ComponentLink1Description: Product Page; ComponentLink1URL: https://www.ti.com/product/TPS54202; ComponentLink2Description: DataSheet; ComponentLink2URL: https://www.ti.com/lit/gpn/tps54202
footprint SOT23-6P95_280X110L45X40N (Small Outline Transistor (SOT23), 0.95 mm pitch; 6 pin, 2.90 mm L X 1.60 mm W X 1.10 mm H body)
pins: 1 GND, 2 SW, 3 VIN, 4 FB, 5 EN, 6 BOOT

## TPS60140
designator DA?, comment TPS60140PW
Regulated 5-V Charge Pump Voltage Tripler With Low Battery Indicator; Manufacturer: Texas Instruments; PartNumber: TPS60140PW; ComponentLink1Description: Product Page; ComponentLink1URL: https://www.ti.com/product/TPS60140; ComponentLink2Description: DataSheet; ComponentLink2URL: https://www.ti.com/lit/gpn/tps60140
footprint SOP21P65_650X640X120L62X24T270X195N (Small Outline Pkg (SOP with Tab), 0.65 mm pitch; 20 pin, 6.50 mm L X 4.40 mm W X 1.20 mm H body)
pins: 1 GND, 2 GND, 3 EN, 4 FB, 5 OUT, 6 C1+, 7 IN, 8 C1-, 9 PGND, 10 PGND, 11 PGND, 12 PGND, 13 C2-, 14 IN, 15 C2+, 16 NC, 17 LBO, 18 LBI, 19 GND, 20 GND, 21 GND

## TPS60151
designator DA?, comment TPS60151DR
5-V and 140-mA Charge Pump; Manufacturer: Texas Instruments; PartNumber: TPS60151DR; ComponentLink1Description: Product Page; ComponentLink1URL: https://www.ti.com/product/TPS60151; ComponentLink2Description: DataSheet; ComponentLink2URL: https://www.ti.com/lit/gpn/tps60151
footprint SON7P65_200X200X80L25X30T160X100N (Small Outline No-Lead (SON with Tab), 0.65 mm pitch; 6 pin, 2.00 mm L X 2.00 mm W X 0.80 mm H body)
pins: 1 GND, 2 VIN, 3 VOUT, 4 CP+, 5 CP-, 6 ENA, 7 GND

## TPS61160
designator DA?, comment TPS61160DRVT
TPS61160 White LED Drivers With Digital and PWM Brightness Control in 2-mm x 2-mm / WSON Package, 28 V typ; Manufacturer: Texas Instruments; PartNumber: TPS61160DRVT; ComponentLink1Description: Product Page; ComponentLink1URL: https://www.ti.com/product/TPS61161; ComponentLink2Description: Manufacturer; ComponentLink2URL: Texas Instruments
footprint SON7P65_200X200X80L25X30T160X100N (Small Outline No-Lead (SON with Tab), 0.65 mm pitch; 6 pin, 2.00 mm L X 2.00 mm W X 0.80 mm H body)
pins: 1 FB, 2 COMP, 3 GND, 4 SW, 5 CTRL, 6 VIN, 7 GND

## TPS62932
designator DA?, comment TPS62932DRL
3.8-V to 30-V, 2-A, 3-A Synchronous Buck Converters in a SOT583 Package; Manufacturer: Texas Instruments; PartNumber: TPS62932DRL; ComponentLink1Description: Product Page; ComponentLink1URL: https://www.ti.com/product/TPS62933P; ComponentLink2Description: DataSheet; ComponentLink2URL: https://www.ti.com/lit/gpn/tps62933p
footprint ICSOFL8P50_210X160X60L30X22N (Integrated Circuit (IC), Small Outline Flat Lead (SOFL), 0.50 mm pitch; 8 pin, 2.10 mm L X 1.20 mm W X 0.60 mm H body)
pins: 1 RT, 2 EN, 3 VIN, 4 GND, 5 SW, 6 BST, 7 SS, 8 FB

## TPS63710DRR
designator DA?
Low Noise, 1A Synchronous Inverting Buck Converter in 3x3 WSON Package; Manufacturer: Texas Instruments; PartNumber: TPS63710DRR; ComponentLink1Description: Product Page; ComponentLink1URL: https://www.ti.com/product/TPS63710; ComponentLink2Description: DataSheet; ComponentLink2URL: https://www.ti.com/lit/gpn/tps63710
footprint SON13P50_300X300X80L40X25T250X150N (Small Outline No-Lead (SON with Tab), 0.50 mm pitch; 12 pin, 3.00 mm L X 3.00 mm W X 0.80 mm H body)
pins: 1 VAUX, 2 EN, 3 PG, 4 VREF, 5 FB, 6 CAP, 7 VOUT, 8 SW, 9 GND, 10 GND, 11 CP, 12 VIN, 13 GND

## TPS561201DDC
designator DA?
Manufacturer: Texas Instruments; PartNumber: TPS561201DDC; ComponentLink1Description: Product Page; ComponentLink1URL: https://www.ti.com/product/TPS561201; ComponentLink2Description: DataSheet; ComponentLink2URL: https://www.ti.com/lit/gpn/tps561201
footprint SOT23-6P95_280X110L45X40N (Small Outline Transistor (SOT23), 0.95 mm pitch; 6 pin, 2.90 mm L X 1.60 mm W X 1.10 mm H body)
pins: 1 GND, 2 SW, 3 VIN, 4 VFB, 5 EN, 6 VBST

## TPSM83100
designator DA?
1.5-A Output Current, Buck-Boost MicroSiP™ Power Module with Integrated Inductor; Manufacturer: Texas Instruments; PartNumber: TPSM83100; ComponentLink1Description: Product Page; ComponentLink1URL: https://www.ti.com/product/TPSM83100; ComponentLink2Description: DataSheet; ComponentLink2URL: https://www.ti.com/lit/gpn/tpsm83100
footprint TI MICROSIP8 (MicroSiP - 1.2 mm max height)
pins: 1 VIN, 2 GND, 3 GND, 4 VOUT, 5 FB, 6 GND, 7 MODE, 8 EN

## TPSM863252RDXR
designator DA?
TPSM86325x 3V to 17V Input, 3A, Synchronous Buck Module in QFN Package; Manufacturer: Texas Instruments; PartNumber: TPSM863252RDXR; ComponentLink1Description: Product Page; ComponentLink1URL: https://www.ti.com/product/TPSM863252; ComponentLink2Description: DataSheet; ComponentLink2URL: https://www.ti.com/lit/gpn/tpsm863252
footprint TPSM863252RDXR (TI QFN-FCMOD - 3.3 mmx4 mm, 2.1 mm max height)
footprint TPSM863252RDXR_Via0402 (TI QFN-FCMOD - 3.3 mm x 4 mm, 2.1 mm max height, with recommended vias)
pins: 1 VIN, 2 SW, 3 VOUT, 4 PGND, 5 PG, 6 EN, 7 FB

## TVL76701WDRBRQ1
designator DA?
1-A, 16-V Linear Voltage Regulator, Adj.; Manufacturer: Texas Instruments; PartNumber: TVL76701WDRBRQ1; ComponentLink1Description: ProductPage; ComponentLink1URL: https://www.ti.com/product/TLV767-Q1; ComponentLink2Description: DataSheet; ComponentLink2URL: https://www.ti.com/lit/gpn/tlv767-q1
footprint TI DRB0008J (VSON - 1 mm max height, 3x3)
pins: 1 OUT, 2 NC, 3 FB, 4 GND, 5 EN, 6 GND, 7 NC, 8 IN, 9 GND